# Altium schematic symbol library TAS5630BDKD.SchLib: 1 symbol
Pins are listed as number, name and electrical type; pins without a type are passive.

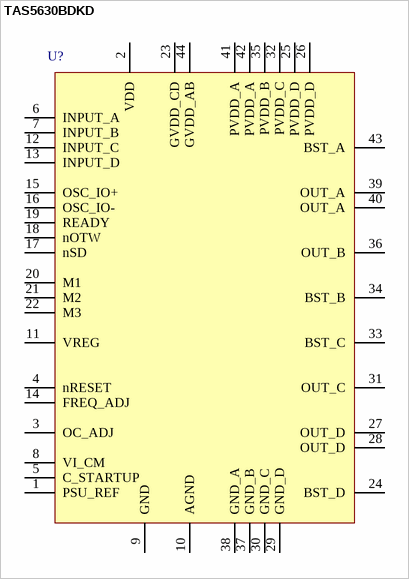
[diagram p0: symbol TAS5630BDKD]

## TAS5630BDKD
designator U?
pins: 1 PSU_REF, 2 VDD, 3 OC_ADJ, 4 nRESET, 5 C_STARTUP, 6 INPUT_A, 7 INPUT_B, 8 VI_CM, 9 GND, 10 AGND, 11 VREG, 12 INPUT_C, 13 INPUT_D, 14 FREQ_ADJ, 15 OSC_IO+, 16 OSC_IO-, 17 nSD, 18 nOTW, 19 READY, 20 M1, 21 M2, 22 M3, 23 GVDD_CD, 24 BST_D, 25 PVDD_D, 26 PVDD_D, 27 OUT_D, 28 OUT_D, 29 GND_D, 30 GND_C, 31 OUT_C, 32 PVDD_C, 33 BST_C, 34 BST_B, 35 PVDD_B, 36 OUT_B, 37 GND_B, 38 GND_A, 39 OUT_A, 40 OUT_A, 41 PVDD_A, 42 PVDD_A, 43 BST_A, 44 GVDD_AB